# EAGLE library part ADAFRUIT_C25582-40G-M36-0A (library Adafruit - C25582-40G-M36-0A)
Header Vertical
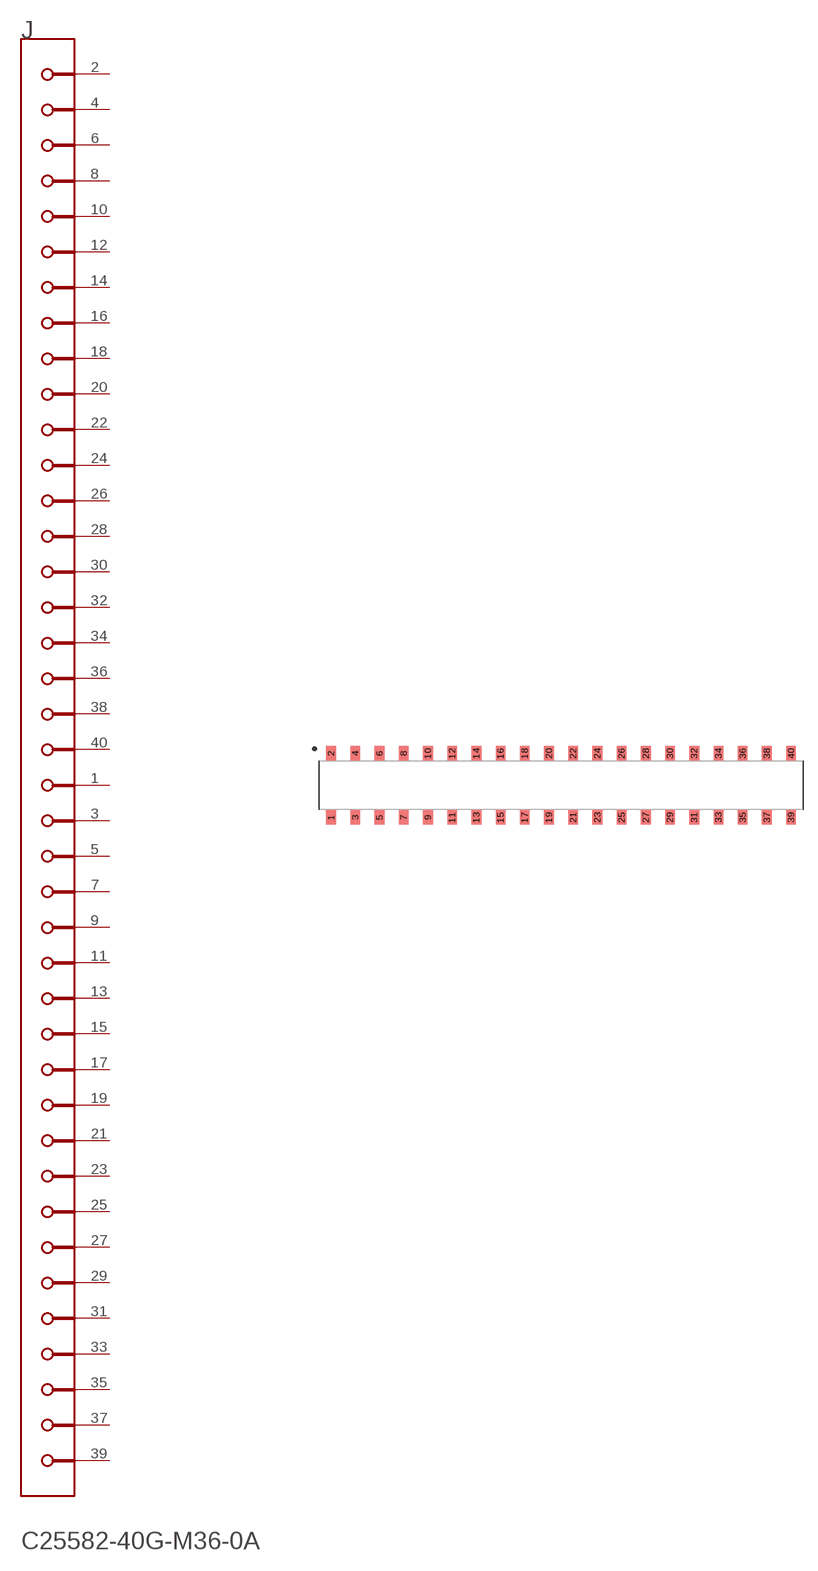
[diagram p0: symbol with the pads of ADAFRUIT_C25582-40G-M36-0A_0; footprint ADAFRUIT_C25582-40G-M36-0A_0]

Designator prefix J

## ADAFRUIT_C25582-40G-M36-0AADAFRUIT_C25582-40G-M36-0A_0_0 (CENTROID_NOT_SPECIFIED: No; DATASHEET: https://cdn-shop.adafruit.com/product-files/2187/CS25582-40G-M36-0A+(1).jpg; LEAD_FREE: yes; MF: Adafruit; MPN: C25582-40G-M36-0A; PACKAGE: Header, 40 Position, 2.54 mm Pitch, Shrouded, Female, Receptacle, Vertical, SMD; PREFIX: J; ROHS: yes; TEMPERATURE_RANGE_HIGH: +105°C; TEMPERATURE_RANGE_LOW: -40°C)  [ADAFRUIT_C25582-40G-M36-0A_0]
1  21
2  1
3  22
4  2
5  23
6  3
7  24
8  4
9  25
10  5
11  26
12  6
13  27
14  7
15  28
16  8
17  29
18  9
19  30
20  10
21  31
22  11
23  32
24  12
25  33
26  13
27  34
28  14
29  35
30  15
31  36
32  16
33  37
34  17
35  38
36  18
37  39
38  19
39  40
40  20

## Footprint ADAFRUIT_C25582-40G-M36-0A_0 (pad centres in mm)
Header Vertical
smd 1.02 x 1.524: 1 -24.13,-3.354; 2 -24.13,3.354; 3 -21.59,-3.354; 4 -21.59,3.354; 5 -19.05,-3.354; 6 -19.05,3.354; 7 -16.51,-3.354; 8 -16.51,3.354; 9 -13.97,-3.354; 10 -13.97,3.354; 11 -11.43,-3.354; 12 -11.43,3.354; 13 -8.89,-3.354; 14 -8.89,3.354; 15 -6.35,-3.354; 16 -6.35,3.354; 17 -3.81,-3.354; 18 -3.81,3.354; 19 -1.27,-3.354; 20 -1.27,3.354; 21 1.27,-3.354; 22 1.27,3.354; 23 3.81,-3.354; 24 3.81,3.354; 25 6.35,-3.354; 26 6.35,3.354; 27 8.89,-3.354; 28 8.89,3.354; 29 11.43,-3.354; 30 11.43,3.354; 31 13.97,-3.354; 32 13.97,3.354; 33 16.51,-3.354; 34 16.51,3.354; 35 19.05,-3.354; 36 19.05,3.354; 37 21.59,-3.354; 38 21.59,3.354; 39 24.13,-3.354; 40 24.13,3.354